# Altium schematic symbol library 750314597.SchLib: 1 symbol
Pins are listed as number, name and electrical type; pins without a type are passive.

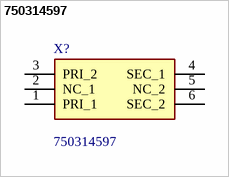
[diagram p0: symbol 750314597]

## 750314597
designator X?
Power Transformers MID-ITIFBK 3.87W SMD Power Transformer; Manufacturer_Name: Wurth Elektronik; Geometry.Height: 8.64mm; Manufacturer_Part_Number: 750314597; Mouser Part Number: 710-750314597; Mouser Price/Stock: https://www.mouser.co.uk/ProductDetail/Wurth-Elektronik/750314597?qs=Bi9WzwbfiOje7VZ5JZKdqA%3D%3D; Arrow Part Number: *; Arrow Price/Stock: *; Datasheet Link: https://katalog.we-online.de/ctm/datasheet/750314597.pdf
footprint 750314597
pins: 1 PRI_1, 2 NC_1, 3 PRI_2, 4 SEC_1, 5 NC_2, 6 SEC_2